# EAGLE library part MP2307DN-LF (library MP2307DN-LF)
MP2307 Series 23V 340 kHz 3A Synchronous Rectified Step-Down Converter - SOIC-8 Check prices <https://pricing.snapeda.com/parts/MP2307DN-LF/Monolithic%20Power/view-part?ref=eda>
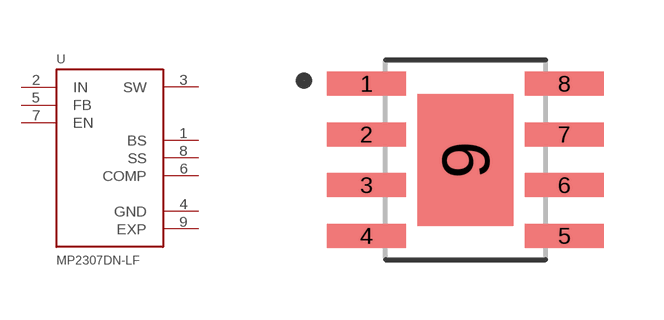
[diagram p0: symbol with the pads of SOIC127P600X170-9N; footprint SOIC127P600X170-9N]

Designator prefix U

## MP2307DN-LF (Availability: Bad; Description: Buck Switching Regulator IC Positive Adjustable 0.925V 1 Output 3A 8-SOIC (0.154, 3.90mm Width) Exposed Pad; MF: Monolithic Power; MP: MP2307DN-LF; Package: SOIC-8 Monolithic Power; Price: None)  [SOIC127P600X170-9N]
1  BS  pas
2  IN  in
3  SW  out
4  GND  pwr
5  FB  in
6  COMP  pas
7  EN  in
8  SS  pas
9  EXP  pwr

## Footprint SOIC127P600X170-9N (pad centres in mm)
smd 1.97 x 0.6: 1 -2.475,1.905; 2 -2.475,0.635; 3 -2.475,-0.635; 4 -2.475,-1.905; 5 2.475,-1.905; 6 2.475,-0.635; 7 2.475,0.635; 8 2.475,1.905
smd 2.41 x 3.3: 9 0,0